# Altium schematic symbol library New_Parts.SchLib: 8 symbols
Pins are listed as number, name and electrical type; pins without a type are passive.

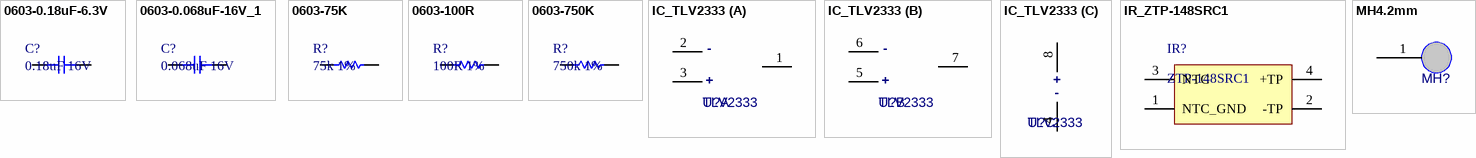
[diagram p0: symbols 0603-0.18uF-6.3V to MH4.2mm]

## 0603-0.18uF-6.3V
designator C?, comment 0.18uF 16V
CAP CER 0.18UF 16V X7R 0603; Manufacturer Part Number: CC0603KRX7R7BB184
footprint CAP-0603 (Chip Capacitor, 2-Leads, Body 1.60x0.80mm, IPC Medium Density)
pins: 1, 2

## 0603-0.068uF-16V_1
designator C?, comment 0.068uF 16V
CAP CER 0.068UF 16V X7R 0603; Manufacturer Part Number: CC0603KRX7R7BB683
footprint CAP-0603 (Chip Capacitor, 2-Leads, Body 1.60x0.80mm, IPC Medium Density)
pins: 1, 2

## 0603-75K
designator R?, comment 75k 1%
RES SMD 75K OHM 1% 1/8W 0603; Manufacturer Product Number: MCT06030C7502FP500
footprint RES-0603 (Chip Resistor, 2-Leads, Body 1.60x0.80mm, IPC Medium Density)
pins: 1, 2

## 0603-100R
designator R?, comment 100R 1%
RES 100 OHM 1% 1/8W 0603; Manufacturer Product Number: RNCP0603FTD100R
footprint RES-0603 (Chip Resistor, 2-Leads, Body 1.60x0.80mm, IPC Medium Density)
pins: 1, 2

## 0603-750K
designator R?, comment 750k 1%
RES 750K OHM 1% 1/10W 0603; Manufacturer Product Number: RMCF0603FT750K
footprint RES-0603 (Chip Resistor, 2-Leads, Body 1.60x0.80mm, IPC Medium Density)
pins: 1, 2

## IC_TLV2333
designator U?, comment TLV2333
3 2-μV VOS, 0.02-μV/°C, 17-μA, CMOS Operational Amplifiers / Zero-Drift
footprint TSSOP65P505X110-8 (VSSOP, 8-Leads, Body 3.1X3.1mm, Pitch 0.65mm, IPC Medium Density)
part A pins: 1 1OUT, 2 1IN-, 3 1IN+
part B pins: 5 2IN+, 6 2IN-, 7 2OUT
part C pins: 4 VDD-, 8 VDD+
part A text: -; +
part B text: -; +
part C text: +; -

## IR_ZTP-148SRC1
designator IR?, comment ZTP-148SRC1
THERMOPILE IR SENSOR with thermistor
footprint ZTP-148SRC1 (IR Temperature Sensor)
pins: 1 NTC_GND, 2 -TP, 3 NTC, 4 +TP

## MH4.2mm
designator MH?, comment MountingHole  (value not drawn)
Mounting hole, 4.2mm; Case: TH
footprint MH4.2MM (Mounting Hole, 4.2mm)
pins: 1